# Altium schematic symbol library MCU.schlib: 5 symbols
Pins are listed as number, name and electrical type; pins without a type are passive.

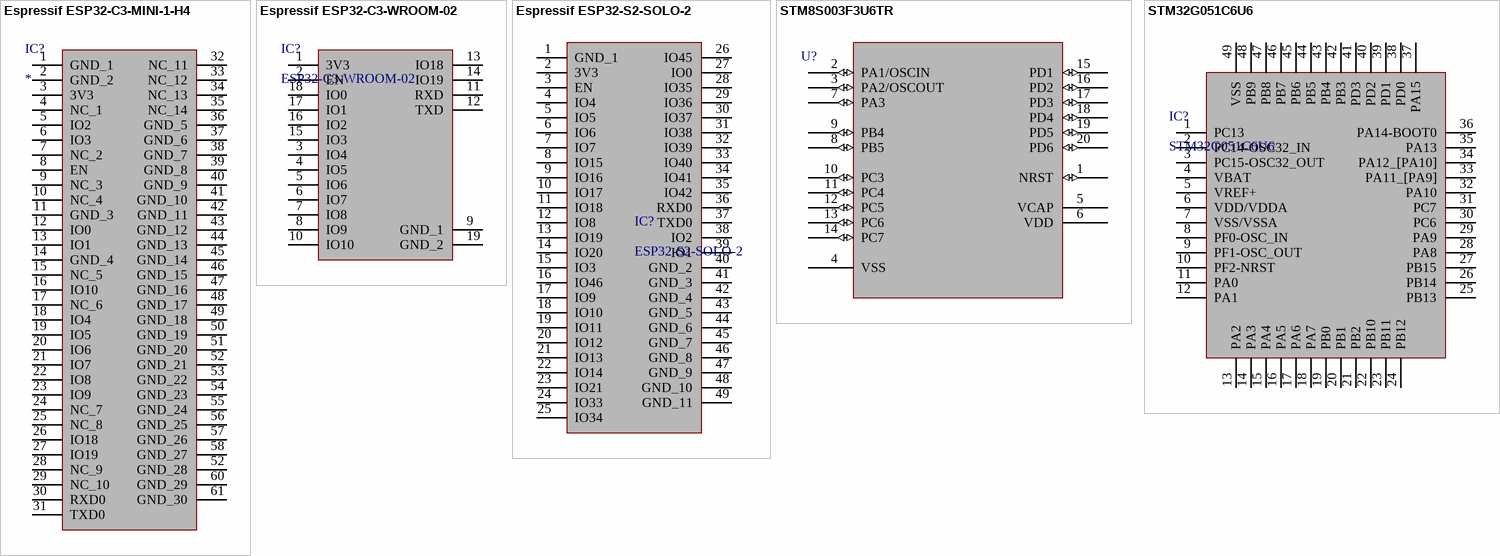
[diagram p0: symbols Espressif ESP32-C3-MINI-1-H4 to STM32G051C6U6]

## Espressif ESP32-C3-MINI-1-H4
designator IC?
Integrated Circuit; Manufacturer_Name: Espressif Systems; Manufacturer_Part_Number: ESP32-C3-MINI-1-H4; Datasheet Link: https://www.mouser.es/datasheet/2/891/Espressif_ESP32_C3_MINI_1_Datasheet-2006822.pdf; Height: 2.55mm; Mouser Part Number: 356-ESP32-C3-MINI1H4; Mouser Price/Stock: https://www.mouser.co.uk/ProductDetail/Espressif-Systems/ESP32-C3-MINI-1-H4?qs=stqOd1AaK78JkwNX13Q9hQ%3D%3D
footprint Espressif ESP32C3MINI1H4
pins: 1 GND_1, 2 GND_2, 3 3V3, 4 NC_1, 5 IO2, 6 IO3, 7 NC_2, 8 EN, 9 NC_3, 10 NC_4, 11 GND_3, 12 IO0, 13 IO1, 14 GND_4, 15 NC_5, 16 IO10, 17 NC_6, 18 IO4, 19 IO5, 20 IO6, 21 IO7, 22 IO8, 23 IO9, 24 NC_7, 25 NC_8, 26 IO18, 27 IO19, 28 NC_9, 29 NC_10, 30 RXD0, 31 TXD0, 32 NC_11, 33 NC_12, 34 NC_13, 35 NC_14, 36 GND_5, 37 GND_6, 38 GND_7, 39 GND_8, 40 GND_9, 41 GND_10, 42 GND_11, 43 GND_12, 44 GND_13, 45 GND_14, 46 GND_15, 47 GND_16, 48 GND_17, 49 GND_18, 50 GND_19, 51 GND_20, 52 GND_21, 52 GND_28, 53 GND_22, 54 GND_23, 55 GND_24, 56 GND_25, 57 GND_26, 58 GND_27, 60 GND_29, 61 GND_30

## Espressif ESP32-C3-WROOM-02
designator IC?, comment ESP32-C3-WROOM-02
Integrated Circuit; Manufacturer_Name: Espressif Systems; Manufacturer_Part_Number: ESP32-C3-WROOM-02-N4; Datasheet Link: https://www.mouser.ch/datasheet/2/891/Espressif_ESP32_C3_WROOM_02-2006871.pdf; Height: 3.35mm; Mouser Part Number: 356-ESP32C3WROOM02N4; Mouser Price/Stock: https://www.mouser.co.uk/ProductDetail/Espressif-Systems/ESP32-C3-WROOM-02-N4?qs=stqOd1AaK7%2FqjTZKEOgfUg%3D%3D; Supplier: Mouser; Supplier Part Number: 356-ESP32C3WROOM02N4
footprint Espressif ESP32C3WROOM02N4
pins: 1 3V3, 2 EN, 3 IO4, 4 IO5, 5 IO6, 6 IO7, 7 IO8, 8 IO9, 9 GND_1, 10 IO10, 11 RXD, 12 TXD, 13 IO18, 14 IO19, 15 IO3, 16 IO2, 17 IO1, 18 IO0, 19 GND_2

## Espressif ESP32-S2-SOLO-2
designator IC?, comment ESP32-S2-SOLO-2
Integrated Circuit
footprint ESPRESSIF ESP32S2SOLO2
pins: 1 GND_1, 2 3V3, 3 EN, 4 IO4, 5 IO5, 6 IO6, 7 IO7, 8 IO15, 9 IO16, 10 IO17, 11 IO18, 12 IO8, 13 IO19, 14 IO20, 15 IO3, 16 IO46, 17 IO9, 18 IO10, 19 IO11, 20 IO12, 21 IO13, 22 IO14, 23 IO21, 24 IO33, 25 IO34, 26 IO45, 27 IO0, 28 IO35, 29 IO36, 30 IO37, 31 IO38, 32 IO39, 33 IO40, 34 IO41, 35 IO42, 36 RXD0, 37 TXD0, 38 IO2, 39 IO1, 40 GND_2, 41 GND_3, 42 GND_4, 43 GND_5, 44 GND_6, 45 GND_7, 46 GND_8, 47 GND_9, 48 GND_10, 49 GND_11

## STM8S003F3U6TR
designator U?  (value not drawn)
Microcontroller, 8-Bit, FLASH, STM8S CPU, 16MHz, CMOS; Mfr_Name: STMicroelectronics; Number of I/O Lines: 16; Power Supplies: 3/5; Max Supply Current: 2.35mA; Max Supply Voltage: 5.5V; Min Supply Voltage: 2.95V; Nominal Supply Voltage: 5V; Peripherals: POR,WDT; Interface: I2C,SPI,UART; Qualification Status: Not Qualified; RefDes: RefDes; Type: Type; Supplier: Mouser; Supplier Part Number: 511-STM8S003F3U6TR; Manufacturer: STMicroelectronics; Manufacturer Part Number: STM8S003F3U6TR; RoHS: Yes; Category: Microcontrollers; Stock: 19718; Pricing: 1=0,8, 10=0,569, 50=0,513, 100=0,45, 1000=0,387, 10000=0,367 (USD); Case/Package: VQCCN; Pins: 20; Package Shape: Square; Min Operating Temperature: -40°C; Max Operating Temperature: 85°C; Clock Frequency: 16MHz; JESD-30 Code: S-XQCC-N20; Surface Mount: Yes; Technology: CMOS; Terminal Form: No Lead; Terminal Position: QUAD; Length: 3mm; Width: 3mm; Height - Seated (Max): 0.6mm; Terminal Pitch: 0.5mm; Temperature Grade: INDUSTRIAL; Reach SVHC Compliant: Yes; RoHS Compliant: Yes; ComponentLink1URL: https://datasheet.ciiva.com:443/pdfs/VipMasterIC/IC/SGST/SGST-S-A0006184982/SGST-S-A0006184982-1.pdf?src-supplier=IHS+Markit; ComponentLink1Description: https://datasheet.ciiva.com:443/pdfs/VipMasterIC/IC/SGST/SGST-S-A0006184982/SGST-S-A0006184982-1.pdf?src-supplier=IHS+Markit; ComponentLink2URL: https://datasheet.ciiva.com/28626/1690469-28626624.pdf?src-supplier=Element14; ComponentLink2Description: https://datasheet.ciiva.com/28626/1690469-28626624.pdf?src-supplier=Element14; ComponentLink3URL: https://datasheet.ciiva.com/6645/dm00024550-6645069.pdf?src-supplier=Digikey; ComponentLink3Description: https://datasheet.ciiva.com/6645/dm00024550-6645069.pdf?src-supplier=Digikey; ComponentLink4URL: https://datasheet.ciiva.com/9223/dm00024550-9223573.pdf?src-supplier=Avnet; ComponentLink4Description: https://datasheet.ciiva.com/9223/dm00024550-9223573.pdf?src-supplier=Avnet; ComponentLink5URL: https://datasheet.ciiva.com/13037/dm00024550-13037151.pdf?src-supplier=Mouser; ComponentLink5Description: https://datasheet.ciiva.com/13037/dm00024550-13037151.pdf?src-supplier=Mouser; ComponentLink6URL: https://datasheet.ciiva.com/16491/dm00024550-16491262.pdf?src-supplier=Future+Electronics; ComponentLink6Description: https://datasheet.ciiva.com/16491/dm00024550-16491262.pdf?src-supplier=Future+Electronics
footprint ST UFQFPN20
pins: 1 NRST (io), 2 PA1/OSCIN (io), 3 PA2/OSCOUT (io), 4 VSS (power), 5 VCAP (power), 6 VDD (power), 7 PA3 (io), 8 PB5 (io), 9 PB4 (io), 10 PC3 (io), 11 PC4 (io), 12 PC5 (io), 13 PC6 (io), 14 PC7 (io), 15 PD1 (io), 16 PD2 (io), 17 PD3 (io), 18 PD4 (io), 19 PD5 (io), 20 PD6 (io)

## STM32G051C6U6
designator IC?
Integrated Circuit; Manufacturer_Name: STMicroelectronics; Datasheet Link: https://www.st.com/resource/en/datasheet/stm32g051c6.pdf; Height: 0.65mm; Manufacturer_Part_Number: STM32G051C6U6; Mouser Part Number: 511-STM32G051C6U6; Mouser Price/Stock: https://www.mouser.co.uk/ProductDetail/STMicroelectronics/STM32G051C6U6?qs=CiayqK2gdcJ5SURZueDp1g%3D%3D
footprint ST QFN50P700X700X65-49N-D
pins: 1 PC13, 2 PC14-OSC32_IN, 3 PC15-OSC32_OUT, 4 VBAT, 5 VREF+, 6 VDD/VDDA, 7 VSS/VSSA, 8 PF0-OSC_IN, 9 PF1-OSC_OUT, 10 PF2-NRST, 11 PA0, 12 PA1, 13 PA2, 14 PA3, 15 PA4, 16 PA5, 17 PA6, 18 PA7, 19 PB0, 20 PB1, 21 PB2, 22 PB10, 23 PB11, 24 PB12, 25 PB13, 26 PB14, 27 PB15, 28 PA8, 29 PA9, 30 PC6, 31 PC7, 32 PA10, 33 PA11_[PA9], 34 PA12_[PA10], 35 PA13, 36 PA14-BOOT0, 37 PA15, 38 PD0, 39 PD1, 40 PD2, 41 PD3, 42 PB3, 43 PB4, 44 PB5, 45 PB6, 46 PB7, 47 PB8, 48 PB9, 49 VSS